# Altium integrated library JL.IntLib: 3 symbols
Pins are listed as number, name and electrical type; pins without a type are passive.

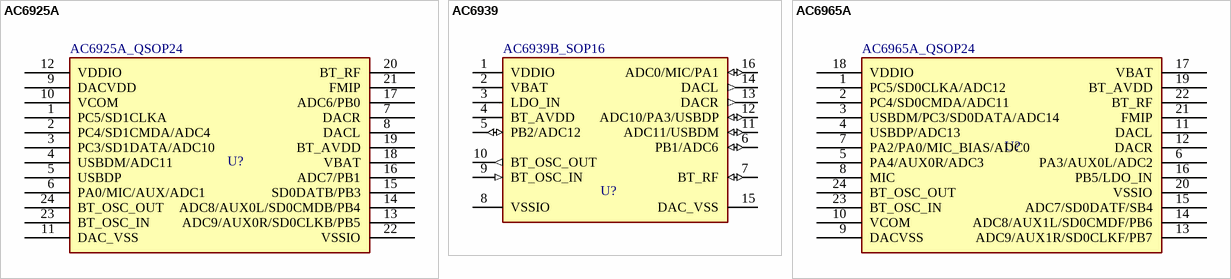
[diagram p0: symbols AC6925A to AC6965A]

## AC6925A
designator U?
Bluetooth Audio IC; MF: Analog Devices; MP: MAX1092BCEG+; Value: *; Package: QSOP-24 Maxim; Check_prices: https://www.snapeda.com/parts/MAX1092BCEG+/Analog+Devices/view-part/?ref=eda; Price: None; Availability: In Stock; SnapEDA_Link: https://www.snapeda.com/parts/MAX1092BCEG+/Analog+Devices/view-part/?ref=snap
footprint AC6925A
pins: 1 PC5/SD1CLKA, 2 PC4/SD1CMDA/ADC4, 3 PC3/SD1DATA/ADC10, 4 USBDM/ADC11, 5 USBDP, 6 PA0/MIC/AUX/ADC1, 7 DACR, 8 DACL, 9 DACVDD, 10 VCOM, 11 DAC_VSS, 12 VDDIO, 13 ADC9/AUX0R/SD0CLKB/PB5, 14 ADC8/AUX0L/SD0CMDB/PB4, 15 SD0DATB/PB3, 16 ADC7/PB1, 17 ADC6/PB0, 18 VBAT, 19 BT_AVDD, 20 BT_RF, 21 FMIP, 22 VSSIO, 23 BT_OSC_IN, 24 BT_OSC_OUT
text: AC6925A_QSOP24

## AC6939
designator U?
Bluethooth Audio IC; MP: Ch340G; MF: WCH; Value: *; SnapEDA_Link: https://www.snapeda.com/parts/Ch340G/WCH/view-part/?ref=snap; Check_prices: https://www.snapeda.com/parts/Ch340G/WCH/view-part/?ref=eda; Availability: Not in stock; Price: None; Package: None
footprint AC6939 (Bluetooth Audio IC)
pins: 1 VDDIO (power), 2 VBAT (power), 3 LDO_IN (power), 4 BT_AVDD (power), 5 PB2/ADC12 (io), 6 PB1/ADC6 (io), 7 BT_RF (io), 8 VSSIO (power), 9 BT_OSC_IN (in), 10 BT_OSC_OUT (out), 11 ADC11/USBDM (io), 12 ADC10/PA3/USBDP (io), 13 DACR (out), 14 DACL (out), 15 DAC_VSS (power), 16 ADC0/MIC/PA1 (io)
text: AC6939B_SOP16

## AC6965A
designator U?
Bluethooth Audio IC
footprint AC6965A
pins: 1 PC5/SD0CLKA/ADC12, 2 PC4/SD0CMDA/ADC11, 3 USBDM/PC3/SD0DATA/ADC14, 4 USBDP/ADC13, 5 PA4/AUX0R/ADC3, 6 PA3/AUX0L/ADC2, 7 PA2/PA0/MIC_BIAS/ADC0, 8 MIC, 9 DACVSS, 10 VCOM, 11 DACL, 12 DACR, 13 ADC9/AUX1R/SD0CLKF/PB7, 14 ADC8/AUX1L/SD0CMDF/PB6, 15 ADC7/SD0DATF/SB4, 16 PB5/LDO_IN, 17 VBAT, 18 VDDIO, 19 BT_AVDD, 20 VSSIO, 21 FMIP, 22 BT_RF, 23 BT_OSC_IN, 24 BT_OSC_OUT
text: AC6965A_QSOP24